# Altium schematic symbol library Schlib Clape.SchLib: 2 symbols
Pins are listed as number, name and electrical type; pins without a type are passive.

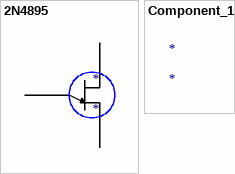
[diagram p0: symbols 2N4895 to Component_1]

## 2N4895
designator *
Bipolar Transistor Small Signal NPN Amplifier/Switch 2A 2V 3-Pin TO-39 Through Hole Box; Manufacturer: Central Semiconductor; Manufacturer Part Number: 2N4895; Max Collector Current: 1uA; hFE Min: 40; Collector Base Voltage (VCBO): 120V; Emitter Base Voltage (VEBO): 6V; Collector Emitter Breakdown Voltage: 60V; Transition Frequency: 50MHz; Supplier 1: Digikey; RoHS: No; Category: BJTs; Stock 1: 342; Pricing 1: 1=11.39, 10=10.03, 100=8.6747 (USD); Mount: Through Hole; Case/Package: TO-39; Polarity: NPN; Packaging: Bulk; Series: -; Package Quantity: 500; Gain Bandwidth Product: 50MHz; Collector-emitter Voltage-Max: 60V; RoHS Compliant: No; ComponentLink1URL: https://datasheet.ciiva.com/4723/lssgp063-49037-4723841.pdf?src-supplier=Mouser; ComponentLink1Description: https://datasheet.ciiva.com/4723/lssgp063-49037-4723841.pdf?src-supplier=Mouser; Supplier Part Number 1: 1514-2N4895PBFREE-ND
pins: 1, 2, E 0

## Component_1
designator *